# EAGLE library part A7198 (library con-omnetics)
RECEPTICAL
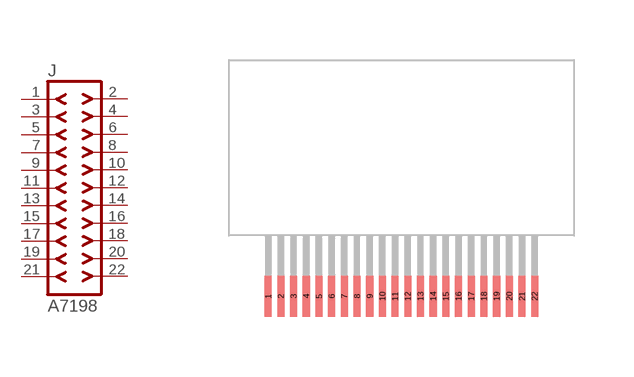
[diagram p17: symbol with the pads of A7198; footprint A7198]

Designator prefix J

## A7198 (P1: >)  [A7198]
1  1  pas
2  2  pas
3  3  pas
4  4  pas
5  5  pas
6  6  pas
7  7  pas
8  8  pas
9  9  pas
10  10  pas
11  11  pas
12  12  pas
13  13  pas
14  14  pas
15  15  pas
16  16  pas
17  17  pas
18  18  pas
19  19  pas
20  20  pas
21  21  pas
22  22  pas

## Footprint A7198 (pad centres in mm)
RECEPTACAL
smd 0.178 x 1.016: 1 -3.334,0; 2 -3.016,0; 3 -2.699,0; 4 -2.381,0; 5 -2.064,0; 6 -1.746,0; 7 -1.429,0; 8 -1.111,0; 9 -0.794,0; 10 -0.476,0; 11 -0.159,0; 12 0.159,0; 13 0.476,0; 14 0.794,0; 15 1.111,0; 16 1.429,0; 17 1.746,0; 18 2.064,0; 19 2.381,0; 20 2.699,0; 21 3.016,0; 22 3.334,0